# Altium schematic symbol library WS2812B-2020.SchLib: 1 symbol
Pins are listed as number, name and electrical type; pins without a type are passive.

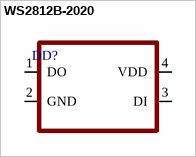
[diagram p0: symbol WS2812B-2020]

## WS2812B-2020
designator DD?
pins: 1 DO, 2 GND, 3 DI, 4 VDD